# Altium footprint library Custom Library.PcbLib: 35 footprints (part 3 of 3)
Each footprint in its own frame and in the unit in brackets; x right, y up, seen from the top. Pads: shape width x height; smd on the part's side, far side on the other; paste and mask are expansions set on the pad; w line width, h text height; cw(c..) or ccw(c..) is an arc to the next point about the centre after c.
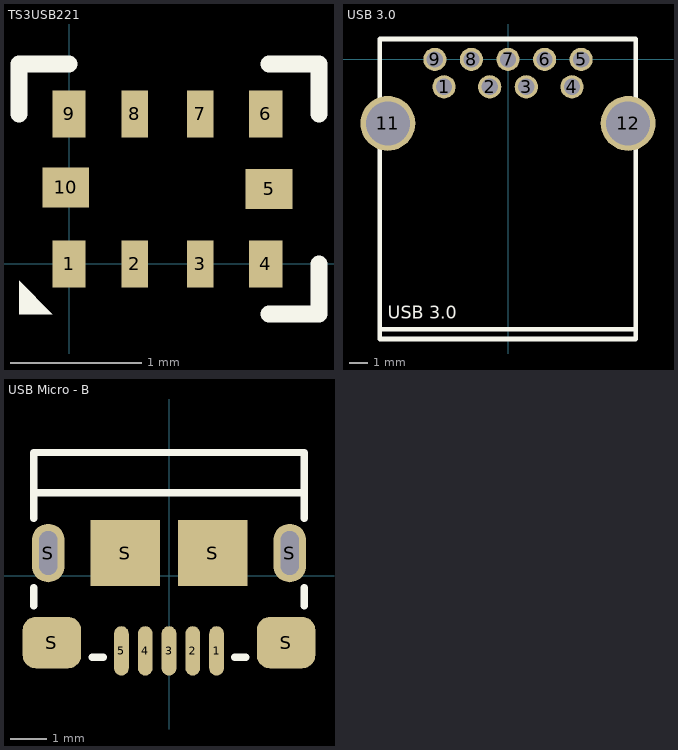
[diagram p2: the footprints below, top view; thin cyan lines are the x and y axes]

## TS3USB221 [mil] "USB multiplex"
pads (10):
  rect 10x14 smd: 1(0,0) 4(59.05,0) 6(59.05,45) 9(0,45)
  rect 8x14 smd: 2(19.68,0) 3(39.37,0) 7(39.37,45) 8(19.68,45)
  rect 14x12 smd: 5(60,22.5) 10(-1,23)
Top Overlay:
  region: -15,-5 -5,-15 -15,-15
  lines w5: -15,45 -15,60 0,60 ; 60,-15 75,-15 75,0 ; 60,60 75,60 75,45

## USB 3.0 [mm] "Type A female"
pads (11):
  round 1.27 hole 0.889: 1(-3.5,-1.5) 2(-1,-1.5) 3(1,-1.5) 4(3.5,-1.5) 5(4,0) 6(2,0) 7(0,0) 8(-2,0) 9(-4,0)
  round 3 hole 2.4: 11(-6.57,-3.5) 12(6.57,-3.5)
Top Overlay:
  lines w0.254: -7.01,-14.757 6.985,-14.757 ; -7.01,-15.291 6.985,-15.291 6.985,1.118 -7.01,1.118 -7.01,-15.291
  text "USB 3.0" at -6.579,-14.427 h1.2

## USB Micro - B [mm]
pads (11):
  oval 0.4x1.35 smd: 1(1.299,-2.054) 2(0.649,-2.054) 3(-0.001,-2.054) 4(-0.651,-2.054) 5(-1.301,-2.054)
  oval 0.9x1.6 hole 0.5 slot 1.2 at 90 deg: S(-3.301,0.621) S(3.299,0.621)
  rrect50% 1.6x1.4 smd: S(-3.201,-1.829) S(3.199,-1.829)
  rect 1.9x1.8 smd: S(-1.201,0.621) S(1.199,0.621)
Top Overlay:
  lines w0.2: -3.701,-0.829 -3.701,-0.329 ; -3.701,1.571 -3.701,2.271 ; -2.101,-2.229 -1.801,-2.229 ; 1.799,-2.229 2.099,-2.229 ; 3.699,-0.829 3.699,-0.329 ; 3.699,1.571 3.699,2.271 ; -3.701,2.271 -3.701,3.371 3.699,3.371 3.699,2.271 ; -3.701,2.271 3.699,2.271